# Altium footprint library Common_Modules.PcbLib: 14 footprints
Each footprint in its own frame and in the unit in brackets; x right, y up, seen from the top. Pads: shape width x height; smd on the part's side, far side on the other; paste and mask are expansions set on the pad; w line width, h text height; cw(c..) or ccw(c..) is an arc to the next point about the centre after c.
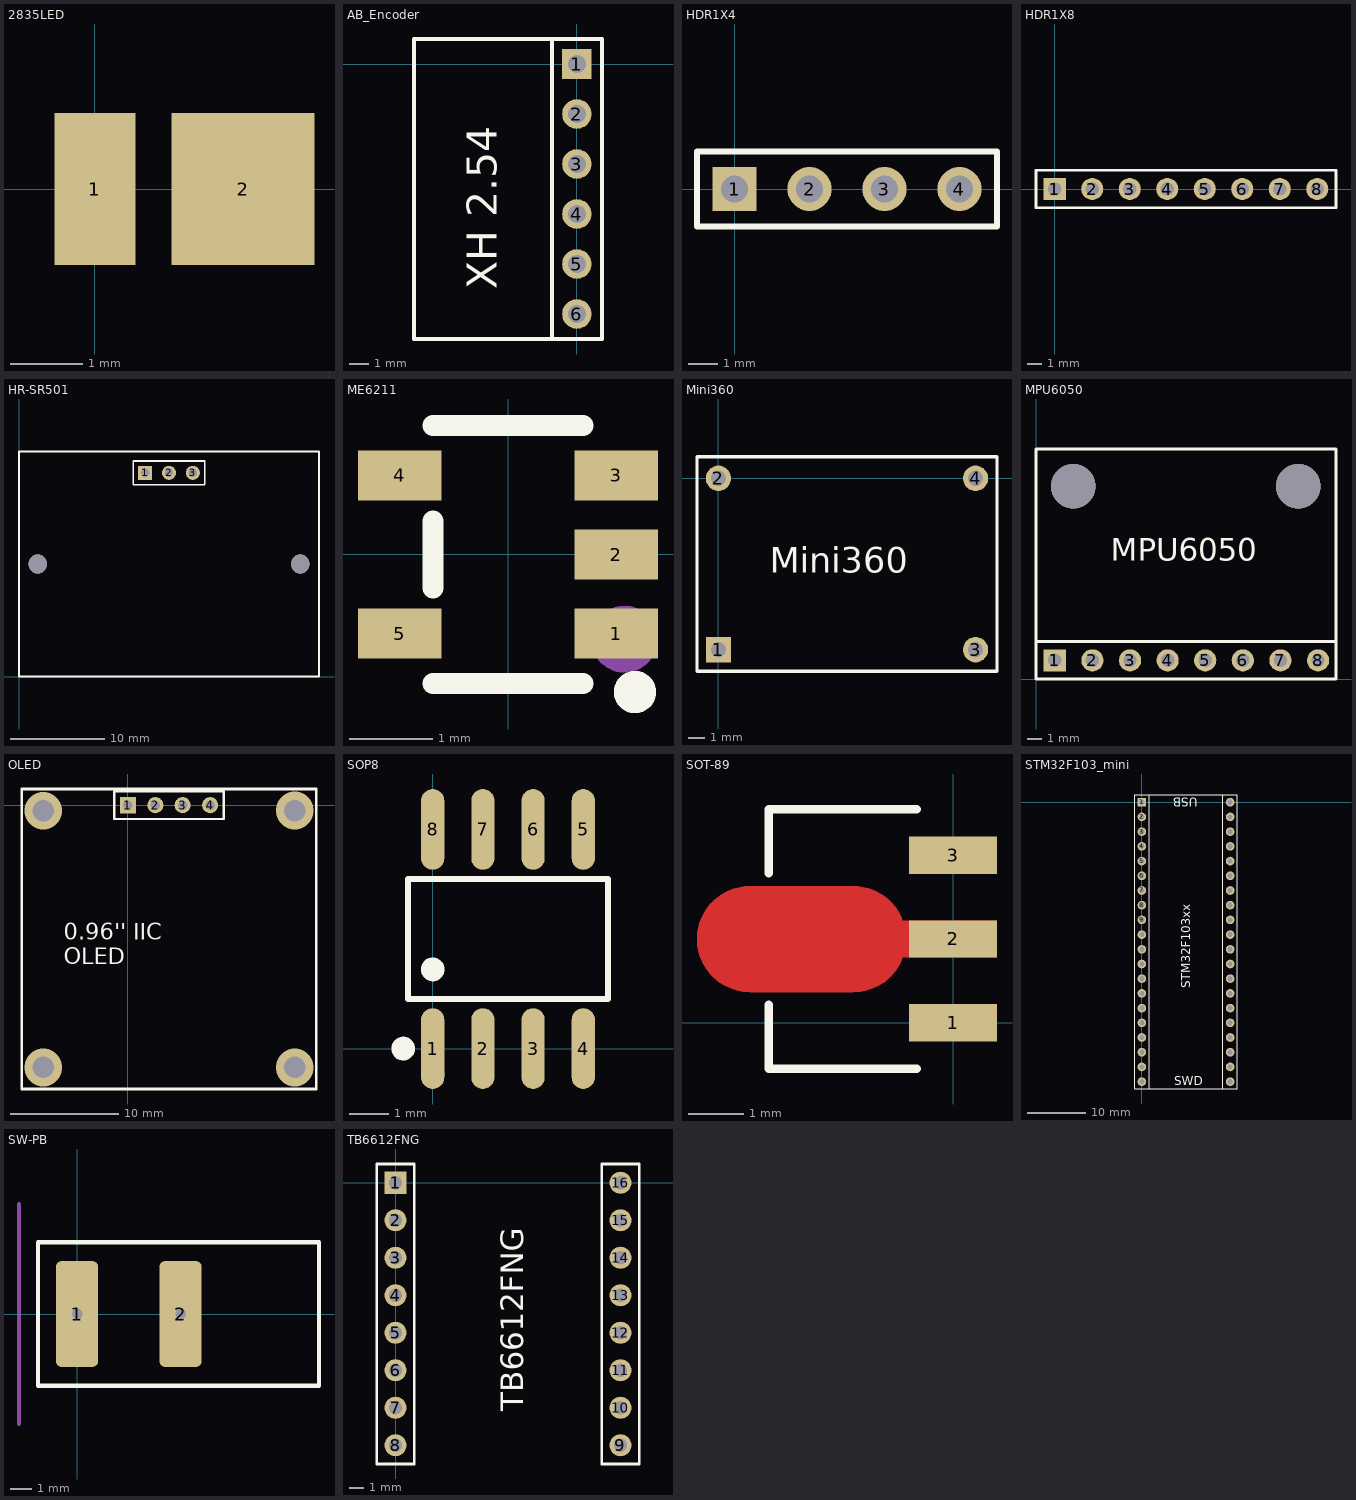
[diagram p0: the footprints below, top view; thin cyan lines are the x and y axes]

## 2835LED [mm]
pads (2):
  rect 1.12x2.1 smd: 1(0,0)
  rect 1.98x2.1 smd: 2(2.05,0)

## AB_Encoder [mm]
pads (6):
  rect 1.5x1.5 hole 0.9: 1(0,0)
  round 1.5 hole 0.9: 2(0,-2.54) 3(0,-5.08) 4(0,-7.62) 5(0,-10.16) 6(0,-12.7)
Top Overlay:
  lines w0.2: -1.27,-1.27 -1.27,1.27 ; -1.27,-13.97 -8.27,-13.97 -8.27,1.27 -1.27,1.27 ; -1.27,-13.97 1.016,-13.97 1.27,-13.97 1.27,1.27 -1.27,1.27 ; -1.27,-13.97 -1.27,1.27
  text "XH 2.54" at -4.064,-11.43 h1.52

## HDR1X4 [mm]
pads (4):
  rect 1.5x1.5 hole 0.9: 1(0,0)
  round 1.5 hole 0.9: 2(2.54,0) 3(5.08,0) 4(7.62,0)
Top Overlay:
  lines w0.2: -1.27,-1.27 -1.27,1.27 8.89,1.27 8.89,-1.27 -1.27,-1.27

## HDR1X8 [mm]
pads (8):
  rect 1.5x1.5 hole 0.9: 1(0,0)
  round 1.5 hole 0.9: 2(2.54,0) 3(5.08,0) 4(7.62,0) 5(10.16,0) 6(12.7,0) 7(15.24,0) 8(17.78,0)
Top Overlay:
  lines w0.2: -1.27,-1.27 19.05,-1.27 19.05,1.27 -1.27,1.27 -1.27,-1.27

## HR-SR501 [mm] "人体红外感应模块"
height 25
pads (3):
  rect 1.5x1.5 hole 0.9: 1(13.46,21.73)
  round 1.5 hole 0.9: 2(16,21.73) 3(18.54,21.73)
via 30,12 diameter 2 hole 2
via 2,12 diameter 2 hole 2
Top Overlay:
  lines w0.2: 0,0 0,24 32,24 32,0 0,0 ; 12.19,20.46 19.81,20.46 19.81,23 12.19,23 12.19,20.46
3D body "HC-SR501 v3.step": height 16.6, standoff -8, extent 0,0 32,24

## ME6211 [mm] "SOT23-5"
pads (5):
  rect 1x0.6 smd: 1(1.3,-0.95) 2(1.3,0) 3(1.3,0.95) 4(-1.3,0.95) 5(-1.3,-0.95)
Top Overlay:
  circle w0.254: c1.524,-1.651 r0.127
  lines w0.254: -0.9,-1.55 0.9,-1.55 ; -0.9,-0.4 -0.9,0.4 ; -0.9,1.55 0.9,1.55
Mechanical 15:
  circle w0.4: c1.397,-1.016 r0.2

## Mini360 [mm]
pads (4):
  rect 1.5x1.5 hole 0.9: 1(0,-10.16)
  round 1.5 hole 0.9: 2(0,0) 3(15.24,-10.16) 4(15.24,0)
Top Overlay:
  lines w0.2: -1.27,-1.27 -1.27,1.27 ; -1.27,1.27 13.97,1.27 16.51,1.27 16.51,-11.43 13.97,-11.43 -1.27,-11.43 -1.27,1.27
  text "Mini360" at 3.048,-5.588 h1.52

## MPU6050 [mm] "GY-521"
pads (8):
  rect 1.5x1.5 hole 0.9: 1(1.27,1.27)
  round 1.5 hole 0.9: 2(3.81,1.27) 3(6.35,1.27) 4(8.89,1.27) 5(11.43,1.27) 6(13.97,1.27) 7(16.51,1.27) 8(19.05,1.27)
via 17.718,13.045 diameter 3 hole 3
via 2.525,13.045 diameter 3 hole 3
Top Overlay:
  lines w0.2: 0,2.54 20.262,2.54 ; 2.54,0 0,0 ; 0,0 0,15.56 20.262,15.56 20.262,0 0,0
  text "MPU6050" at 5.053,8.001 h1.52

## OLED [mm] "0.96 IIC"
pads (4):
  rect 1.5x1.5 hole 0.9: 1(0,0)
  round 1.5 hole 0.9: 2(2.54,0) 3(5.08,0) 4(7.62,0)
via 15.46,-0.5 diameter 3.5 hole 2
via -7.84,-0.508 diameter 3.5 hole 2
via -7.84,-24.3 diameter 3.5 hole 2
via 15.46,-24.3 diameter 3.5 hole 2
Top Overlay:
  lines w0.2: -1.27,-1.27 8.89,-1.27 8.89,1.27 -1.27,1.27 -1.27,-1.27
  lines w0.254: -9.84,-26.3 17.46,-26.3 17.46,1.5 -9.84,1.5 -9.84,-26.3
  text "0.96'' IIC  / OLED" at -5.966,-14.744 h1.52

## SOP8 [mm]
pads (8):
  oval 0.588x2.045 smd: 1(0,0) 2(1.27,0) 3(2.54,0) 4(3.81,0) 5(3.81,5.545) 6(2.54,5.545) 7(1.27,5.545) 8(0,5.545)
Top Overlay:
  circle w0.3: c-0.747,0 r0.15
  circle w0.3: c0,2.003 r0.15
  lines w0.152: -0.621,1.251 4.431,1.251 4.431,4.294 -0.621,4.294 -0.621,1.251
Mechanical 15:
  circle w0.3: c0,-0.628 r0.15

## SOT-89 [mm]
pads (3):
  rect 1.575x0.672 smd: 1(0,0) 2(0,1.5) 3(0,3)
Top Layer:
  region: -3.644,2.448 -1.79,2.448 -1.745,2.447 -1.701,2.444 -1.657,2.439 -1.613,2.432 -1.569,2.422 -1.526,2.411 -1.484,2.398 -1.442,2.382 -1.401,2.365 -1.361,2.346 -1.321,2.325 -1.283,2.302 -1.246,2.277 -1.21,2.251 -1.176,2.223 -1.142,2.193 -1.11,2.162 -1.08,2.13 -1.051,2.096 -1.024,2.06 -0.998,2.024 -0.975,1.986 -0.953,1.947 -0.933,1.908 -0.914,1.828 0.787,1.828 0.787,1.168 -0.914,1.168 -0.933,1.089 -0.953,1.049 -0.975,1.011 -0.998,0.973 -1.024,0.936 -1.051,0.901 -1.08,0.867 -1.11,0.835 -1.142,0.803 -1.176,0.774 -1.21,0.746 -1.246,0.719 -1.283,0.695 -1.321,0.672 -1.361,0.651 -1.401,0.632 -1.442,0.614 -1.484,0.599 -1.526,0.586 -1.569,0.574 -1.613,0.565 -1.657,0.558 -1.701,0.553 -1.745,0.549 -1.79,0.548 -3.644,0.548 -3.689,0.549 -3.733,0.553 -3.777,0.558 -3.821,0.565 -3.865,0.574 -3.908,0.586 -3.95,0.599 -3.992,0.614 -4.033,0.632 -4.073,0.651 -4.113,0.672 -4.151,0.695 -4.188,0.719 -4.224,0.746 -4.259,0.774 -4.292,0.803 -4.324,0.835 -4.354,0.867 -4.383,0.901 -4.41,0.936 -4.436,0.973 -4.459,1.011 -4.481,1.049 -4.501,1.089 -4.52,1.13 -4.536,1.171 -4.55,1.213 -4.563,1.256 -4.573,1.299 -4.581,1.343 -4.588,1.387 -4.592,1.432 -4.594,1.476 -4.594,1.521 -4.592,1.565 -4.588,1.609 -4.581,1.654 -4.573,1.697 -4.563,1.741 -4.55,1.783 -4.536,1.826 -4.52,1.867 -4.501,1.908 -4.481,1.947 -4.459,1.986 -4.436,2.024 -4.41,2.06 -4.383,2.096 -4.354,2.13 -4.324,2.162 -4.292,2.193 -4.259,2.223 -4.224,2.251 -4.188,2.277 -4.151,2.302 -4.113,2.325 -4.073,2.346 -4.033,2.365 -3.992,2.382 -3.95,2.398 -3.908,2.411 -3.865,2.422 -3.821,2.432 -3.777,2.439 -3.733,2.444 -3.689,2.447
Top Overlay:
  lines w0.152: -3.306,0.323 -3.306,-0.826 -0.654,-0.826 ; -3.306,2.677 -3.306,3.826 -0.654,3.826
Top Paste:
  region: -3.64,2.45 -1.785,2.45 -1.741,2.449 -1.696,2.446 -1.652,2.44 -1.608,2.433 -1.565,2.424 -1.522,2.412 -1.479,2.399 -1.437,2.384 -1.396,2.366 -1.356,2.347 -1.317,2.326 -1.279,2.303 -1.241,2.279 -1.206,2.252 -1.171,2.224 -1.138,2.195 -1.106,2.164 -1.075,2.131 -1.047,2.097 -1.019,2.062 -0.994,2.025 -0.97,1.987 -0.948,1.949 -0.928,1.909 -0.91,1.83 0.788,1.83 0.788,1.17 -0.91,1.17 -0.928,1.09 -0.948,1.051 -0.97,1.012 -0.994,0.974 -1.019,0.938 -1.047,0.902 -1.075,0.868 -1.106,0.836 -1.138,0.805 -1.171,0.775 -1.206,0.747 -1.241,0.721 -1.279,0.696 -1.317,0.673 -1.356,0.652 -1.396,0.633 -1.437,0.616 -1.479,0.6 -1.522,0.587 -1.565,0.576 -1.608,0.566 -1.652,0.559 -1.696,0.554 -1.741,0.551 -1.785,0.55 -3.64,0.55 -3.684,0.551 -3.728,0.554 -3.773,0.559 -3.817,0.566 -3.86,0.576 -3.903,0.587 -3.946,0.6 -3.988,0.616 -4.029,0.633 -4.069,0.652 -4.108,0.673 -4.146,0.696 -4.183,0.721 -4.219,0.747 -4.254,0.775 -4.287,0.805 -4.319,0.836 -4.349,0.868 -4.378,0.902 -4.405,0.938 -4.431,0.974 -4.455,1.012 -4.477,1.051 -4.497,1.09 -4.515,1.131 -4.531,1.172 -4.546,1.215 -4.558,1.257 -4.568,1.301 -4.577,1.344 -4.583,1.389 -4.587,1.433 -4.589,1.477 -4.589,1.522 -4.587,1.566 -4.583,1.611 -4.577,1.655 -4.568,1.699 -4.558,1.742 -4.546,1.785 -4.531,1.827 -4.515,1.868 -4.497,1.909 -4.477,1.949 -4.455,1.987 -4.431,2.025 -4.405,2.062 -4.378,2.097 -4.349,2.131 -4.319,2.164 -4.287,2.195 -4.254,2.224 -4.219,2.252 -4.183,2.279 -4.146,2.303 -4.108,2.326 -4.069,2.347 -4.029,2.366 -3.988,2.384 -3.946,2.399 -3.903,2.412 -3.86,2.424 -3.817,2.433 -3.773,2.44 -3.728,2.446 -3.684,2.449
Top Solder:
  region: -3.64,2.45 -1.785,2.45 -1.741,2.449 -1.696,2.446 -1.652,2.44 -1.608,2.433 -1.565,2.424 -1.522,2.412 -1.479,2.399 -1.437,2.384 -1.396,2.366 -1.356,2.347 -1.317,2.326 -1.279,2.303 -1.241,2.279 -1.206,2.252 -1.171,2.224 -1.138,2.195 -1.106,2.164 -1.075,2.131 -1.047,2.097 -1.019,2.062 -0.994,2.025 -0.97,1.987 -0.948,1.949 -0.928,1.909 -0.91,1.83 0.788,1.83 0.788,1.17 -0.91,1.17 -0.928,1.09 -0.948,1.051 -0.97,1.012 -0.994,0.974 -1.019,0.938 -1.047,0.902 -1.075,0.868 -1.106,0.836 -1.138,0.805 -1.171,0.775 -1.206,0.747 -1.241,0.721 -1.279,0.696 -1.317,0.673 -1.356,0.652 -1.396,0.633 -1.437,0.616 -1.479,0.6 -1.522,0.587 -1.565,0.576 -1.608,0.566 -1.652,0.559 -1.696,0.554 -1.741,0.551 -1.785,0.55 -3.64,0.55 -3.684,0.551 -3.728,0.554 -3.773,0.559 -3.817,0.566 -3.86,0.576 -3.903,0.587 -3.946,0.6 -3.988,0.616 -4.029,0.633 -4.069,0.652 -4.108,0.673 -4.146,0.696 -4.183,0.721 -4.219,0.747 -4.254,0.775 -4.287,0.805 -4.319,0.836 -4.349,0.868 -4.378,0.902 -4.405,0.938 -4.431,0.974 -4.455,1.012 -4.477,1.051 -4.497,1.09 -4.515,1.131 -4.531,1.172 -4.546,1.215 -4.558,1.257 -4.568,1.301 -4.577,1.344 -4.583,1.389 -4.587,1.433 -4.589,1.477 -4.589,1.522 -4.587,1.566 -4.583,1.611 -4.577,1.655 -4.568,1.699 -4.558,1.742 -4.546,1.785 -4.531,1.827 -4.515,1.868 -4.497,1.909 -4.477,1.949 -4.455,1.987 -4.431,2.025 -4.405,2.062 -4.378,2.097 -4.349,2.131 -4.319,2.164 -4.287,2.195 -4.254,2.224 -4.219,2.252 -4.183,2.279 -4.146,2.303 -4.108,2.326 -4.069,2.347 -4.029,2.366 -3.988,2.384 -3.946,2.399 -3.903,2.412 -3.86,2.424 -3.817,2.433 -3.773,2.44 -3.728,2.446 -3.684,2.449
Mechanical 15:
  circle w0.3: c0.359,0 r0.15

## STM32F103_mini [mm]
pads (40):
  rect 1.5x1.5 hole 0.9: 1(0,0)
  round 1.5 hole 0.9: 2(0,-2.54) 3(0,-5.08) 4(0,-7.62) 5(0,-10.16) 6(0,-12.7) 7(0,-15.24) 8(0,-17.78) 9(0,-20.32) 10(0,-22.86) 11(0,-25.4) 12(0,-27.94) 13(0,-30.48) 14(0,-33.02) 15(0,-35.56) 16(0,-38.1) 17(0,-40.64) 18(0,-43.18) 19(0,-45.72) 20(0,-48.26) 21(15.24,-48.26) 22(15.24,-45.72) 23(15.24,-43.18) 24(15.24,-40.64) 25(15.24,-38.1) 26(15.24,-35.56) 27(15.24,-33.02) 28(15.24,-30.48) 29(15.24,-27.94) 30(15.24,-25.4) 31(15.24,-22.86) 32(15.24,-20.32) 33(15.24,-17.78) 34(15.24,-15.24) 35(15.24,-12.7) 36(15.24,-10.16) 37(15.24,-7.62) 38(15.24,-5.08) 39(15.24,-2.54) 40(15.24,0)
Top Overlay:
  lines w0.2: 1.27,-49.53 1.27,-0.635 1.27,1.27 ; 1.27,-49.53 -1.27,-49.53 -1.27,1.27 1.27,1.27 ; 1.27,-49.53 13.97,-49.53 ; 1.27,1.27 13.97,1.27 ; 13.97,-49.53 13.97,1.27 ; 13.97,-49.53 16.51,-49.53 16.51,-0.635 16.51,1.27 13.97,1.27
  text "STM32F103xx" at 8.382,-32.128 h1.52
  text "SWD" at 5.589,-48.895 h1.52
  text "USB" at 9.651,0.762 h1.52

## SW-PB [mm] "船型开关"
pads (2):
  rrect25% 2x5 hole 0.5 square: 1(0,0) 2(4.9,0)
Top Overlay:
  lines w0.2: -1.85,-3.391 11.45,-3.391 11.45,3.391 -1.85,3.391 -1.85,-3.391
Mechanical 1:
  lines w0.2: -2.75,-5.2 -2.75,5.2
3D body "船型开关 KCD11 250V 3A v2.step": height 12.8, standoff -6.6, extent -2.75,-5.2 12.25,5.2

## TB6612FNG [mm] "HW-166"
pads (16):
  rect 1.5x1.5 hole 0.9: 1(0,0)
  round 1.5 hole 0.9: 2(0,-2.54) 3(0,-5.08) 4(0,-7.62) 5(0,-10.16) 6(0,-12.7) 7(0,-15.24) 8(0,-17.78) 9(15.24,-17.78) 10(15.24,-15.24) 11(15.24,-12.7) 12(15.24,-10.16) 13(15.24,-7.62) 14(15.24,-5.08) 15(15.24,-2.54) 16(15.24,0)
Top Overlay:
  lines w0.2: -1.27,-1.27 -1.27,1.27 ; -1.27,1.27 1.27,1.27 1.27,-19.05 -1.27,-19.05 -1.27,1.27 ; 13.97,-19.05 13.97,1.27 16.51,1.27 16.51,-19.05 13.97,-19.05
  text "TB6612FNG" at 8.636,-15.494 h1.52